# EAGLE library part CQ2065 (library CurrentSensing)
Current sensor Datasheet <https://www.akm.com/content/dam/documents/products/current-sensor/cq2065/cq2065-en-datasheet.pdf>
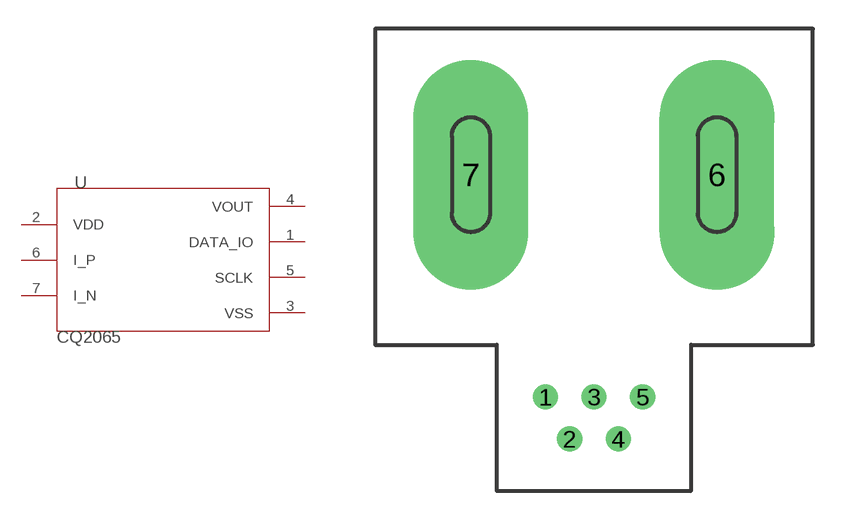
[diagram p0: symbol with the pads of 974-1092-1; footprint 974-1092-1]

Designator prefix -

## CQ2065  [974-1092-1]
1  DATA_IO
2  VDD
3  VSS
4  VOUT
5  SCLK
6  I_P
7  I_N

## Footprint 974-1092-1 (pad centres in mm)
Datasheet <https://www.akm.com/content/dam/documents/products/current-sensor/cq2065/cq2065-en-datasheet.pdf>
drill 0.8: 1 -2.54,-11.6; 2 -1.27,-13.8; 3 0,-11.6; 4 1.27,-13.8; 5 2.54,-11.6
drill 2 pad 6 long: 6 6.425,0; 7 -6.425,0